# Altium footprint library TSOP65P490X110_HS-9N.PcbLib: 1 footprints
Each footprint in its own frame and in the unit in brackets; x right, y up, seen from the top. Pads: shape width x height; smd on the part's side, far side on the other; paste and mask are expansions set on the pad; w line width, h text height; cw(c..) or ccw(c..) is an arc to the next point about the centre after c.
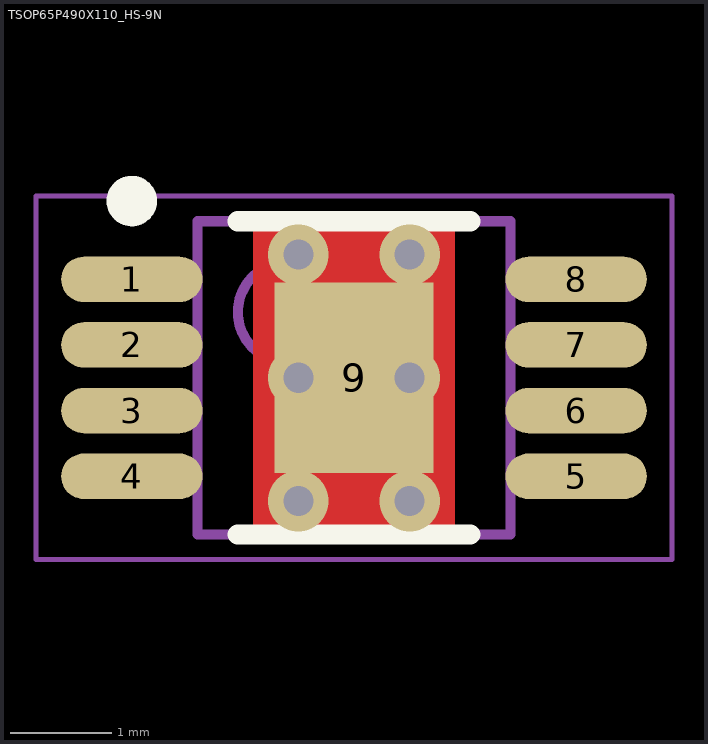
[diagram p0: the footprint, top view; thin cyan lines are the x and y axes]

## TSOP65P490X110_HS-9N [mm] "TSOP, 8-Leads, Body 3,00x3,00mm, Pitch 0,65mm, Thermal Pad 1,89x1,57mm, IPC Medium Density"
height 1.1
pads (9):
  oval 1.4x0.45 smd: 1(-1272.2,-1269.025) 2(-1272.2,-1269.675) 3(-1272.2,-1270.325) 4(-1272.2,-1270.975) 5(-1267.8,-1270.975) 6(-1267.8,-1270.325) 7(-1267.8,-1269.675) 8(-1267.8,-1269.025)
  rect 1.57x1.89 smd: 9(-1270,-1270)
via -1269.45,-1270 diameter 0.6 hole 0.3
via -1270.55,-1270 diameter 0.6 hole 0.3
via -1270.55,-1268.78 diameter 0.6 hole 0.3
via -1269.45,-1268.78 diameter 0.6 hole 0.3
via -1269.45,-1271.22 diameter 0.6 hole 0.3
via -1270.55,-1271.22 diameter 0.6 hole 0.3
Top Layer:
  rectangle: -1271,-1271.524 -1269,-1268.476
Top Overlay:
  circle w0.25: c-1272.2,-1268.25 r0.125
  lines w0.2: -1271.15,-1271.55 -1268.85,-1271.55 ; -1271.15,-1268.45 -1268.85,-1268.45
Top Solder:
  rectangle: -1268.349,-1271.143 -1267.206,-1268.857
  rectangle: -1272.794,-1271.143 -1271.651,-1268.857
Mechanical 13:
  circle w0.1: c-1270.65,-1269.35 r0.5
  lines w0.1: -1271.55,-1271.55 -1271.55,-1268.45 -1268.45,-1268.45 -1268.45,-1271.55 -1271.55,-1271.55
Mechanical 15:
  lines w0.05: -1273.15,-1271.8 -1273.15,-1268.2 -1266.85,-1268.2 -1266.85,-1271.8 -1273.15,-1271.8
  lines w0.1: -1270.5,-1270 -1269.5,-1270 ; -1270,-1270.5 -1270,-1269.5
3D body "TSOP65P490X110_HS-9N.step": height 1.1, standoff 0, extent -1272.448,-1271.55 -1267.552,-1268.45